# Altium footprint library RK73H1JTTD1002F.PcbLib: 1 footprints
Each footprint in its own frame and in the unit in brackets; x right, y up, seen from the top. Pads: shape width x height; smd on the part's side, far side on the other; paste and mask are expansions set on the pad; w line width, h text height; cw(c..) or ccw(c..) is an arc to the next point about the centre after c.
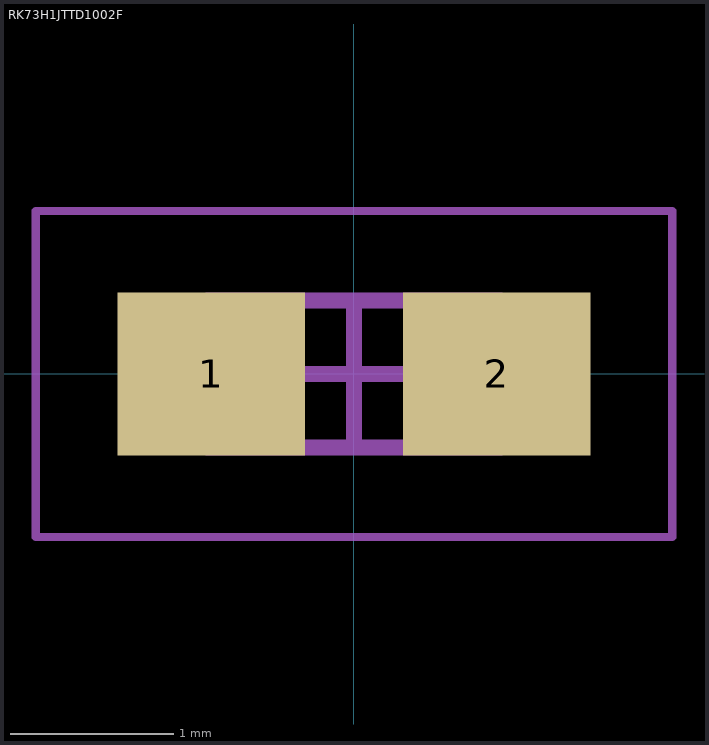
[diagram p0: the footprint, top view; thin cyan lines are the x and y axes]

## RK73H1JTTD1002F [mm] "10k 0603 Resistor IPC Low Density"
height 0.55
pads (2):
  rect 1.15x1 smd: 1(-0.875,0) 2(0.875,0)
Mechanical 13:
  lines w0.1: -0.9,-0.45 0.9,-0.45 0.9,0.45 -0.9,0.45 -0.9,-0.45
Mechanical 15:
  lines w0.05: -1.95,-1 1.95,-1 1.95,1 -1.95,1 -1.95,-1
  lines w0.1: -0.45,0 0.45,0 ; 0,-0.45 0,0.45
3D body "RK73H1JTTD1002F.step": height 0.55, standoff 0, extent -0.9,-0.45 0.9,0.45